# EAGLE library part MP6605DGR-P (library MP6605DGR-P)
Gate Drivers 4-Channel Low-Side MOSFET Driver IC with Parallel Interface Source: Datasheet <https://www.monolithicpower.com/en/documentview/productdocument/index/version/2/document_type/Datasheet/lang/en/sku/MP6605DGR/document_id/10715/>
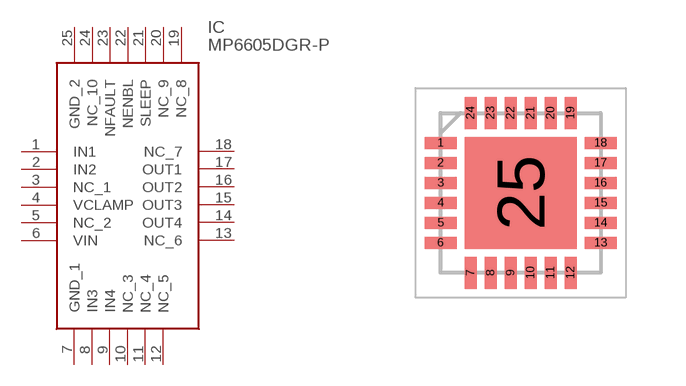
[diagram p0: symbol with the pads of QFN50P400X400X100-25N; footprint QFN50P400X400X100-25N]

Designator prefix IC

## MP6605DGR-P (Description: Gate Drivers 4-Channel Low-Side MOSFET Driver IC with Parallel Interface; Height: 1mm; Manufacturer_Name: Monolithic Power Systems (MPS); Manufacturer_Part_Number: MP6605DGR-P)  [QFN50P400X400X100-25N]
1  IN1
2  IN2
3  NC_1
4  VCLAMP
5  NC_2
6  VIN
7  GND_1
8  IN3
9  IN4
10  NC_3
11  NC_4
12  NC_5
13  NC_6
14  OUT4
15  OUT3
16  OUT2
17  OUT1
18  NC_7
19  NC_8
20  NC_9
21  SLEEP
22  NENBL
23  NFAULT
24  NC_10
25  GND_2

## Footprint QFN50P400X400X100-25N (pad centres in mm)
QFN-24 (4mmx4mm)
smd 0.8 x 0.3: 1 -2,1.25; 2 -2,0.75; 3 -2,0.25; 4 -2,-0.25; 5 -2,-0.75; 6 -2,-1.25; 13 2,-1.25; 14 2,-0.75; 15 2,-0.25; 16 2,0.25; 17 2,0.75; 18 2,1.25
smd 0.3 x 0.8: 7 -1.25,-2; 8 -0.75,-2; 9 -0.25,-2; 10 0.25,-2; 11 0.75,-2; 12 1.25,-2; 19 1.25,2; 20 0.75,2; 21 0.25,2; 22 -0.25,2; 23 -0.75,2; 24 -1.25,2
smd 2.8 x 2.8: 25 0,0